# Altium footprint library TDFN8.PcbLib: 1 footprints
Each footprint in its own frame and in the unit in brackets; x right, y up, seen from the top. Pads: shape width x height; smd on the part's side, far side on the other; paste and mask are expansions set on the pad; w line width, h text height; cw(c..) or ccw(c..) is an arc to the next point about the centre after c.
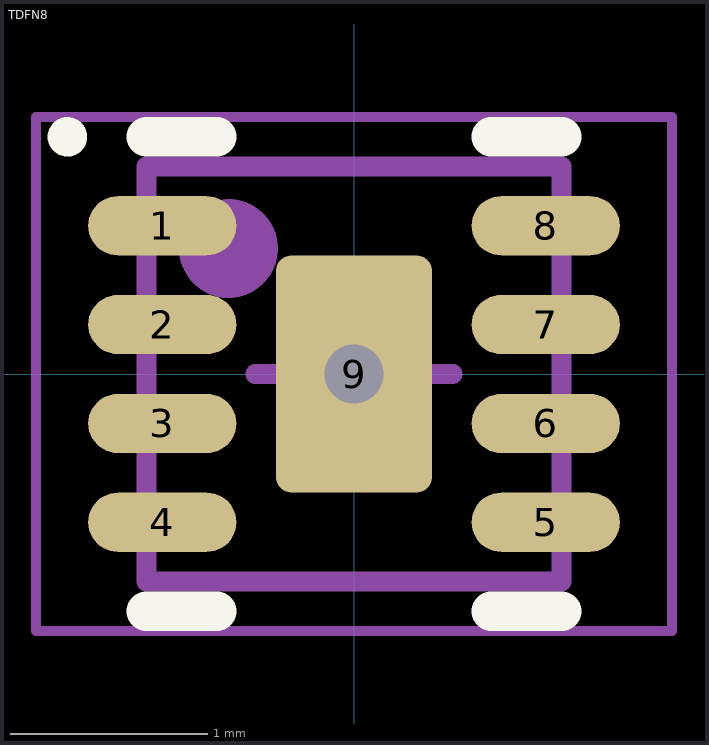
[diagram p0: the footprint, top view; thin cyan lines are the x and y axes]

## TDFN8 [mm]
pads (9):
  oval 0.75x0.3 smd mask+0.05: 1(-0.97,0.75) 4(-0.97,-0.75) 5(0.97,-0.75) 6(0.97,-0.25) 7(0.97,0.25) 8(0.97,0.75)
  oval 0.75x0.3 smd mask+0: 2(-0.97,0.25) 3(-0.97,-0.25)
  rrect20% 0.79x1.2 smd mask+0.05: 9(0,0)
via 0,0 diameter 0.6 hole 0.3
Top Overlay:
  circle w0.1: c-1.45,1.2 r0.05
  lines w0.2: -1.05,-1.2 -0.695,-1.2 ; -1.05,1.2 -0.695,1.2 ; 0.695,-1.2 1.05,-1.2 ; 0.695,1.2 1.05,1.2
Top Courtyard:
  lines w0.05: -1.61,-1.3 1.61,-1.3 1.61,1.3 -1.61,1.3 -1.61,-1.3
  lines w0.1: -0.5,0 0.5,0 ; 0,-0.5 0,0.5
Top Assembly:
  circle w0.3: c-0.635,0.635 r0.1
  lines w0.1: -1.05,-1.05 1.05,-1.05 1.05,1.05 -1.05,1.05 -1.05,-1.05
  text "'.Designator'" at -0.889,-0.127 h0.15
3D body "SON50P200X80_HS-9N.step": height 0.8, standoff 0, extent -1.1,-1.05 1.1,1.05